# Altium footprint library CON_Vertical 5X2_Ribbon.PcbLib: 1 footprints
Each footprint in its own frame and in the unit in brackets; x right, y up, seen from the top. Pads: shape width x height; smd on the part's side, far side on the other; paste and mask are expansions set on the pad; w line width, h text height; cw(c..) or ccw(c..) is an arc to the next point about the centre after c.
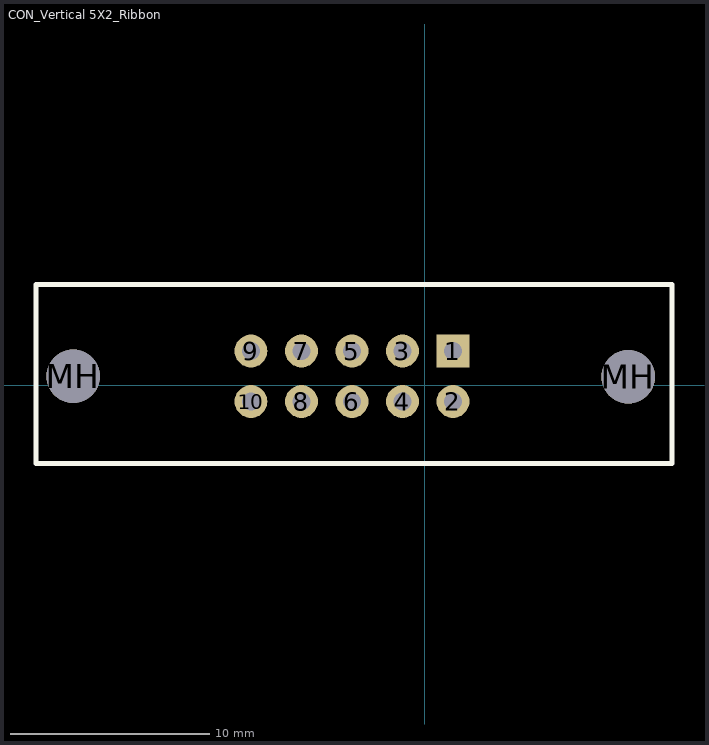
[diagram p0: the footprint, top view; thin cyan lines are the x and y axes]

## CON_Vertical 5X2_Ribbon [mil] "Ribbon Connector"
pads (12):
  rect 65x65 hole 35: 1(56,68)
  round 65 hole 35: 2(56,-32) 3(-44,68) 4(-44,-32) 5(-144,68) 6(-144,-32) 7(-244,68) 8(-244,-32) 9(-344,68) 10(-344,-32)
  round 106 hole 106: MH(-696,18) MH(403,17)
Top Overlay:
  lines w10: -770,-155 -770,-145 -770,200 490,200 490,-155 -770,-155
3D body: height 918.81, standoff -107.09, extent -773.91,-161.13 485.93,185.33